# EAGLE library part FT232RQ (library FT232RQ)
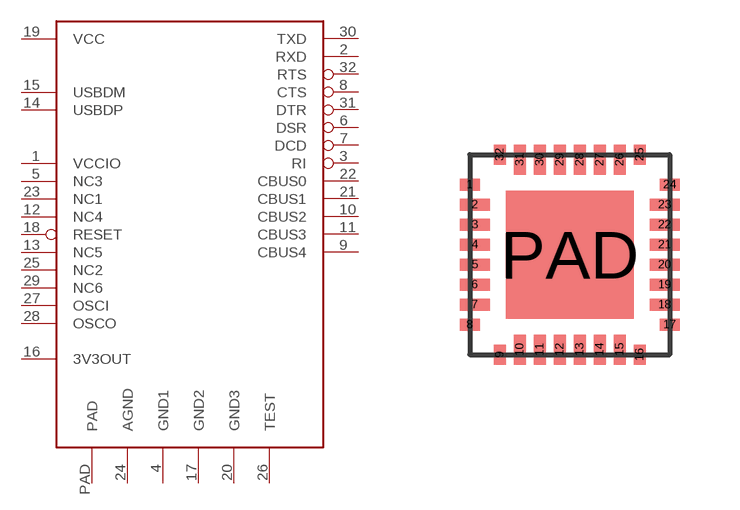
[diagram p0: symbol with the pads of QFN32; footprint QFN32]

Designator prefix -

## FT232RQ  [QFN32]
1  VCCIO
2  RXD
3  RI
4  GND1
5  NC3
6  DSR
7  DCD
8  CTS
9  CBUS4
10  CBUS2
11  CBUS3
12  NC4
13  NC5
14  USBDP
15  USBDM
16  3V3OUT
17  GND2
18  RESET
19  VCC
20  GND3
21  CBUS1
22  CBUS0
23  NC1
24  AGND
25  NC2
26  TEST
27  OSCI
28  OSCO
29  NC6
30  TXD
31  DTR
32  RTS
PAD  PAD

## Footprint QFN32 (pad centres in mm)
smd 0.5 x 0.3: 1 -2.5,1.75; 8 -2.5,-1.75; 17 2.5,-1.75; 24 2.5,1.75
smd 0.75 x 0.3: 2 -2.375,1.25; 3 -2.375,0.75; 4 -2.375,0.25; 5 -2.375,-0.25; 6 -2.375,-0.75; 7 -2.375,-1.25; 18 2.375,-1.25; 19 2.375,-0.75; 20 2.375,-0.25; 21 2.375,0.25; 22 2.375,0.75; 23 2.375,1.25
smd 0.3 x 0.5: 9 -1.75,-2.5; 16 1.75,-2.5; 25 1.75,2.5; 32 -1.75,2.5
smd 0.3 x 0.75: 10 -1.25,-2.375; 11 -0.75,-2.375; 12 -0.25,-2.375; 13 0.25,-2.375; 14 0.75,-2.375; 15 1.25,-2.375; 26 1.25,2.375; 27 0.75,2.375; 28 0.25,2.375; 29 -0.25,2.375; 30 -0.75,2.375; 31 -1.25,2.375
smd 3.2 x 3.2: PAD 0,0